# EAGLE library part USB_C (library Ooo-Connectors)
USB Type-C USB 2.0 Connector
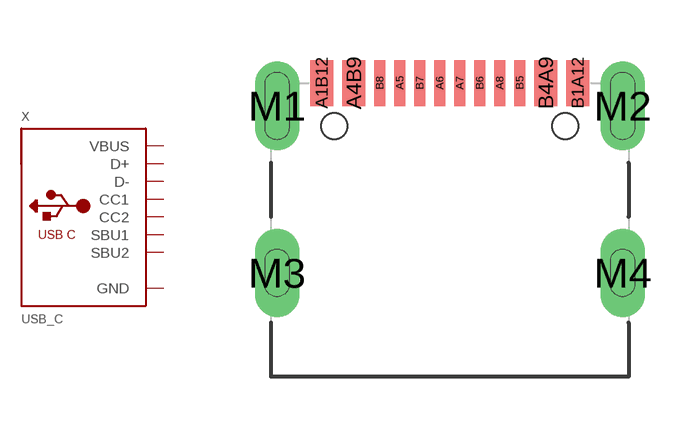
[diagram p5: symbol with the pads of USB_C_CUSB31-CFM2AX-01-X; footprint USB_C_CUSB31-CFM2AX-01-X]

Designator prefix X

## USB_C  [USB_C_CUSB31-CFM2AX-01-X]
A1B12  GND  pwr
A4B9  VBUS  pwr
A5  CC1
A6  D+
A7  D-
A8  SBU1
B1A12  GND  pwr
B4A9  VBUS  pwr
B5  CC2
B6  D+
B7  D-
B8  SBU2

## Footprint USB_C_CUSB31-CFM2AX-01-X (pad centres in mm)
smd 0.575 x 1.15: A1B12 -3.2,3.545; A4B9 -2.4,3.545; B1A12 3.2,3.545; B4A9 2.4,3.545
smd 0.275 x 1.15: A5 -1.25,3.545; A6 -0.25,3.545; A7 0.25,3.545; A8 1.25,3.545; B5 1.75,3.545; B6 0.75,3.545; B7 -0.75,3.545; B8 -1.75,3.545
drill 0.6 pad 1 long: M1 -4.32,2.97; M2 4.32,2.97; M3 -4.32,-1.21; M4 4.32,-1.21
hole 0.65 at 2.89,2.47
hole 0.65 at -2.89,2.47